# Altium footprint library Resist 10w.PcbLib: 1 footprints
Each footprint in its own frame and in the unit in brackets; x right, y up, seen from the top. Pads: shape width x height; smd on the part's side, far side on the other; paste and mask are expansions set on the pad; w line width, h text height; cw(c..) or ccw(c..) is an arc to the next point about the centre after c.
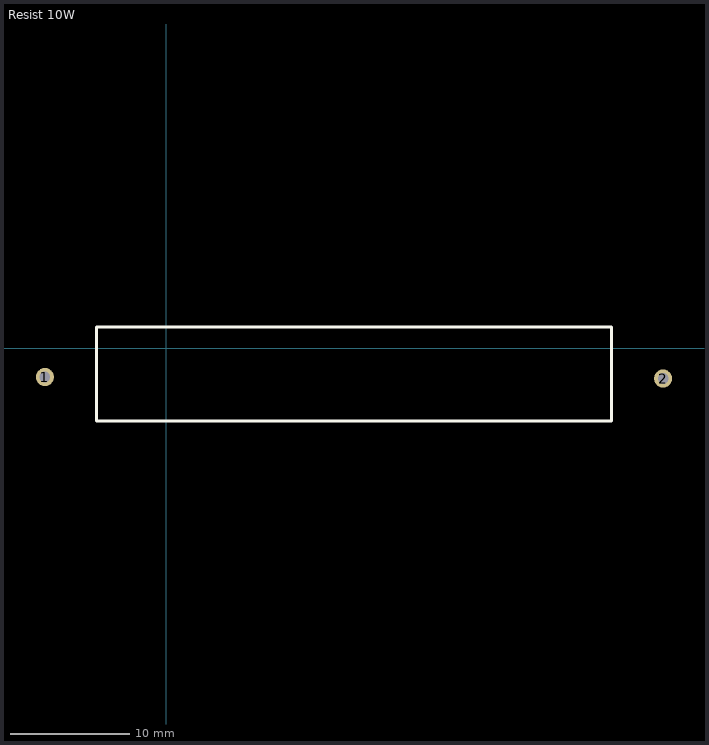
[diagram p0: the footprint, top view; thin cyan lines are the x and y axes]

## Resist 10W [mil]
pads (2):
  round 60 hole 35: 1(-400,-95) 2(1635,-100)
Top Overlay:
  lines w10: -230,-240 -230,70 1465,70 1465,-240 -230,-240